# EAGLE library part MOLEX_55299_0478 (library Traficon)
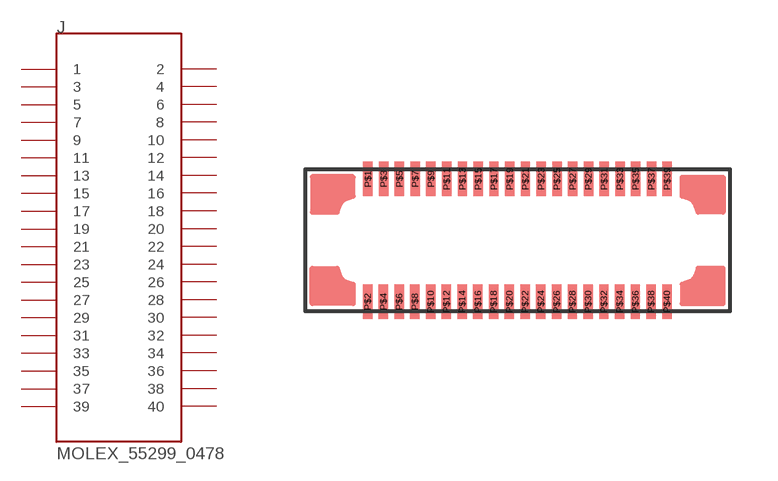
[diagram p131: symbol with the pads of MOLEX_55299_0478; footprint MOLEX_55299_0478]

Designator prefix J

## MOLEX_55299_0478  [MOLEX_55299_0478]
P$1  1
P$2  2
P$3  3
P$4  4
P$5  5
P$6  6
P$7  7
P$8  8
P$9  9
P$10  10
P$11  11
P$12  12
P$13  13
P$14  14
P$15  15
P$16  16
P$17  17
P$18  18
P$19  19
P$20  20
P$21  21
P$22  22
P$23  23
P$24  24
P$25  25
P$26  26
P$27  27
P$28  28
P$29  29
P$30  30
P$31  31
P$32  32
P$33  33
P$34  34
P$35  35
P$36  36
P$37  37
P$38  38
P$39  39
P$40  40

## Footprint MOLEX_55299_0478 (pad centres in mm)
smd 0.3 x 1.1: P$1 -4.754,1.95; P$2 -4.763,-1.952; P$3 -4.254,1.95; P$4 -4.263,-1.952; P$5 -3.754,1.95; P$6 -3.763,-1.952; P$7 -3.254,1.95; P$8 -3.263,-1.952; P$9 -2.754,1.95; P$10 -2.763,-1.952; P$11 -2.254,1.95; P$12 -2.263,-1.952; P$13 -1.754,1.95; P$14 -1.763,-1.952; P$15 -1.254,1.95; P$16 -1.263,-1.952; P$17 -0.754,1.95; P$18 -0.763,-1.952; P$19 -0.254,1.95; P$20 -0.263,-1.952; P$21 0.246,1.95; P$22 0.237,-1.952; P$23 0.746,1.95; P$24 0.737,-1.952; P$25 1.246,1.95; P$26 1.237,-1.952; P$27 1.746,1.95; P$28 1.737,-1.952; P$29 2.246,1.95; P$30 2.237,-1.952; P$31 2.746,1.95; P$32 2.737,-1.952; P$33 3.246,1.95; P$34 3.237,-1.952; P$35 3.746,1.95; P$36 3.737,-1.952; P$37 4.246,1.95; P$38 4.237,-1.952; P$39 4.746,1.95; P$40 4.737,-1.952